# Altium footprint library Miscellaneous Devices.PcbLib: 215 footprints (part 11 of 14)
Each footprint in its own frame and in the unit in brackets; x right, y up, seen from the top. Pads: shape width x height; smd on the part's side, far side on the other; paste and mask are expansions set on the pad; w line width, h text height; cw(c..) or ccw(c..) is an arc to the next point about the centre after c.
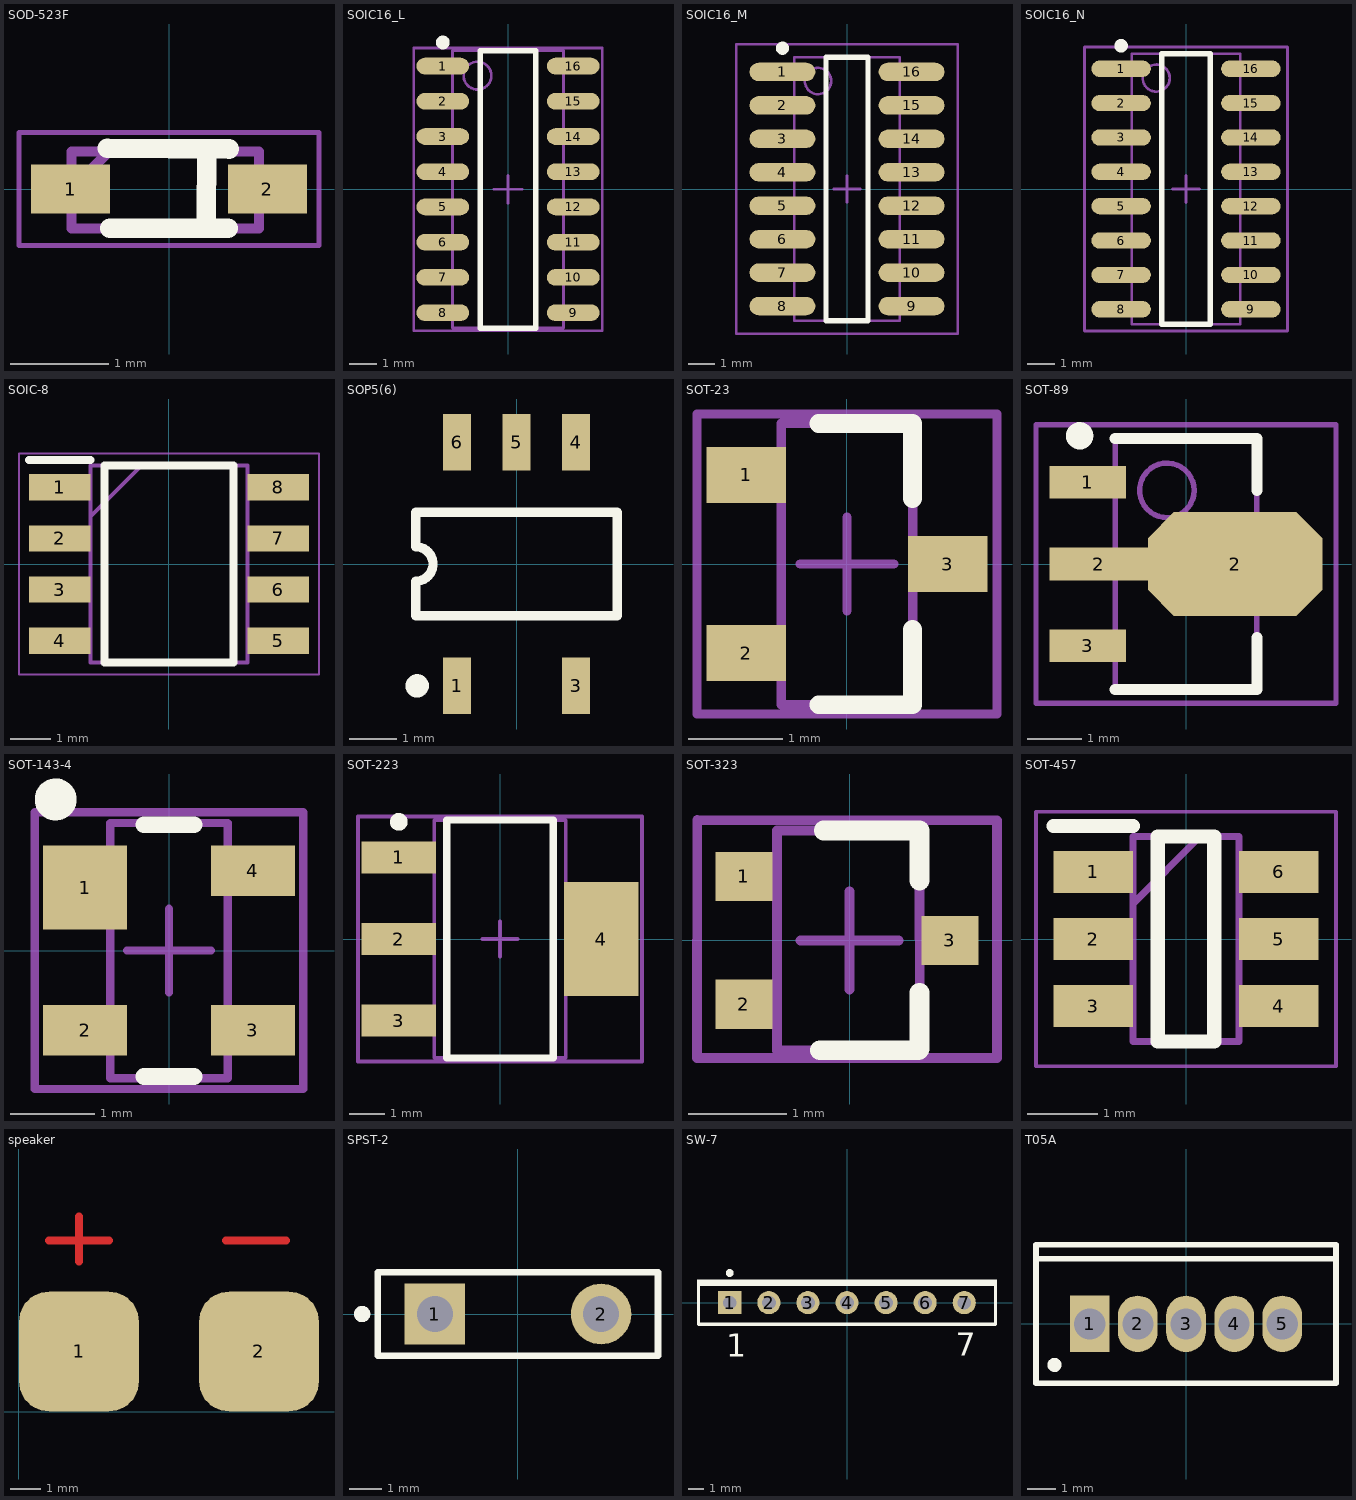
[diagram p10: the footprints below, top view; thin cyan lines are the x and y axes]

## SOD-523F [mm] "width: 1.35mm; long: 2.7"
height 1.1
pads (2):
  rect 0.8x0.5 smd: 1(-1,0) 2(1,0)
Top Overlay:
  lines w0.2: -0.625,0.413 0.61,0.406 ; -0.6,-0.4 0.6,-0.4 ; 0.379,-0.33 0.383,0.406
Mechanical 13:
  lines w0.1: -0.991,0 -0.597,0.394 ; -0.991,-0.4 -0.991,0.381 0.914,0.381 0.914,-0.4 -0.991,-0.4
Mechanical 15:
  lines w0.05: -1.524,-0.575 -1.524,0.575 1.524,0.575 1.524,-0.575 -1.524,-0.575
3D body "SOD-523F.STEP": height 0.7, standoff 0, extent -0.8,-0.399 0.8,0.399

## SOIC16_L [mm] "SOIC, 16-Leads, Body 9.9x3.9mm, Pitch 1.27mm, IPC High Density"
height 1.91
pads (16):
  oval 1.9x0.6 smd: 1(-2.35,4.445) 2(-2.35,3.175) 3(-2.35,1.905) 4(-2.35,0.635) 5(-2.35,-0.635) 6(-2.35,-1.905) 7(-2.35,-3.175) 8(-2.35,-4.445) 9(2.35,-4.445) 10(2.35,-3.175) 11(2.35,-1.905) 12(2.35,-0.635) 13(2.35,0.635) 14(2.35,1.905) 15(2.35,3.175) 16(2.35,4.445)
Top Overlay:
  circle w0.25: c-2.35,5.295 r0.125
  lines w0.2: -1,-5 -1,5 1,5 1,-5 -1,-5
Mechanical 13:
  circle w0.1: c-1.1,4.1 r0.5
  lines w0.1: -2,-5 -2,5 2,5 2,-5 -2,-5
Mechanical 15:
  lines w0.1: -0.5,0 0.5,0 ; 0,-0.5 0,0.5 ; -3.4,-5.1 -3.4,5.1 3.4,5.1 3.4,-5.1 -3.4,-5.1
3D body: height 1.91, standoff 0, extent -2,-5 2,5

## SOIC16_M [mm] "SOIC, 16-Leads, Body 9.9x3.9mm, Pitch 1.27mm, IPC Low Density"
height 1.91
pads (16):
  oval 2.5x0.7 smd: 1(-2.45,4.445) 2(-2.45,3.175) 3(-2.45,1.905) 4(-2.45,0.635) 5(-2.45,-0.635) 6(-2.45,-1.905) 7(-2.45,-3.175) 8(-2.45,-4.445) 9(2.45,-4.445) 10(2.45,-3.175) 11(2.45,-1.905) 12(2.45,-0.635) 13(2.45,0.635) 14(2.45,1.905) 15(2.45,3.175) 16(2.45,4.445)
Top Overlay:
  circle w0.25: c-2.45,5.345 r0.125
  lines w0.2: -0.8,-5 -0.8,5 0.8,5 0.8,-5 -0.8,-5
Mechanical 13:
  circle w0.1: c-1.1,4.1 r0.5
  lines w0.1: -2,-5 -2,5 2,5 2,-5 -2,-5
Mechanical 15:
  lines w0.1: -0.5,0 0.5,0 ; 0,-0.5 0,0.5 ; -4.2,-5.5 -4.2,5.5 4.2,5.5 4.2,-5.5 -4.2,-5.5
3D body: height 1.91, standoff 0, extent -2,-5 2,5

## SOIC16_N [mm] "SOIC, 16-Leads, Body 9.9x3.9mm, Pitch 1.27mm, IPC Medium Density"
height 1.91
pads (16):
  oval 2.2x0.6 smd: 1(-2.4,4.445) 2(-2.4,3.175) 3(-2.4,1.905) 4(-2.4,0.635) 5(-2.4,-0.635) 6(-2.4,-1.905) 7(-2.4,-3.175) 8(-2.4,-4.445) 9(2.4,-4.445) 10(2.4,-3.175) 11(2.4,-1.905) 12(2.4,-0.635) 13(2.4,0.635) 14(2.4,1.905) 15(2.4,3.175) 16(2.4,4.445)
Top Overlay:
  circle w0.25: c-2.4,5.295 r0.125
  lines w0.2: -0.9,-5 -0.9,5 0.9,5 0.9,-5 -0.9,-5
Mechanical 13:
  circle w0.1: c-1.1,4.1 r0.5
  lines w0.1: -2,-5 -2,5 2,5 2,-5 -2,-5
Mechanical 15:
  lines w0.1: -0.5,0 0.5,0 ; 0,-0.5 0,0.5 ; -3.75,-5.25 -3.75,5.25 3.75,5.25 3.75,-5.25 -3.75,-5.25
3D body: height 1.91, standoff 0, extent -2,-5 2,5

## SOIC-8 [mm]
pads (8):
  rect 1.525x0.65 smd: 1(-2.712,1.905) 2(-2.712,0.635) 3(-2.712,-0.635) 4(-2.712,-1.905) 5(2.712,-1.905) 6(2.712,-0.635) 7(2.712,0.635) 8(2.712,1.905)
Top Overlay:
  lines w0.2: -3.475,2.58 -1.95,2.58 ; -1.6,-2.45 1.6,-2.45 1.6,2.45 -1.6,2.45 -1.6,-2.45
Mechanical 13:
  lines w0.1: -1.95,1.18 -0.68,2.45 ; -1.95,-2.45 1.95,-2.45 1.95,2.45 -1.95,2.45 -1.95,-2.45
Mechanical 15:
  lines w0.05: -3.725,-2.75 3.725,-2.75 3.725,2.75 -3.725,2.75 -3.725,-2.75
3D body "SOIC8.step": height 1.75, standoff 0, extent -3,-2.45 3,2.45

## SOP5(6) [mm] "Small Outline; 6 Leads (1 Absent); Body Width 4.4 mm; Pitch 1.27 mm"
height 2.4
pads (5):
  rect 0.6x1.2 smd: 1(-1.27,-2.6) 3(1.27,-2.6) 4(1.27,2.6) 5(0,2.6) 6(-1.27,2.6)
Top Overlay:
  circle w0.25: c-2.12,-2.6 r0.125
  lines w0.2: -2.15,-1.1 -2.15,-0.367 ccw(c-2.15,0) -2.15,0.367 -2.15,1.1 2.15,1.1 2.15,-1.1 -2.15,-1.1

## SOT-23 [mm] "SOT23, 3-Leads, Body 2.9x1.3mm, Pitch 0.95mm, Lead Span 2.5mm, IPC High Density"
height 1.1
pads (3):
  rect 0.85x0.6 smd: 1(-1.075,0.95) 2(-1.075,-0.95) 3(1.075,0)
Top Overlay:
  lines w0.2: -0.3,-1.5 0.7,-1.5 0.7,-0.7 ; -0.3,1.5 0.7,1.5 0.7,0.7
Mechanical 13:
  lines w0.1: -0.7,-1.5 -0.7,1.5 0.7,1.5 0.7,-1.5 -0.7,-1.5
Mechanical 15:
  lines w0.1: -0.5,0 0.5,0 ; 0,-0.5 0,0.5 ; -1.6,-1.6 -1.6,1.6 1.6,1.6 1.6,-1.6 -1.6,-1.6
3D body "SOT23.step": height 1.05, standoff -0.05, extent -1.25,-1.5 1.25,1.5

## SOT-89 [mm] "SOT89, 3-Leads, Body 4.5x2.4 mm, Pitch 1.5mm, Lead Span 4.1mm, IPC Medium Density"
height 1.6
pads (4):
  rect 1.4x0.6 smd: 1(-1.8,1.5) 3(-1.8,-1.5)
  rect 1.8x0.6 smd: 2(-1.6,0)
  oct 3.2x1.9 smd: 2(0.9,0)
Top Overlay:
  circle w0.25: c-1.95,2.35 r0.125
  lines w0.2: -1.3,-2.3 1.3,-2.3 1.3,-1.35 ; -1.3,2.3 1.3,2.3 1.3,1.35
Mechanical 13:
  circle w0.1: c-0.35,1.35 r0.5
  lines w0.1: -1.3,-2.3 -1.3,2.3 1.3,2.3 1.3,-2.3 -1.3,-2.3
Mechanical 15:
  lines w0.1: -0.5,0 0.5,0 ; 0,-0.5 0,0.5 ; -2.75,-2.55 -2.75,2.55 2.75,2.55 2.75,-2.55 -2.75,-2.55
3D body "SOT89-3.STEP": height 1.54, standoff 0, extent -2.25,-2.25 2,2.25

## SOT-143-4 [mm]
pads (4):
  rect 1x1 smd: 1(-1,0.75)
  rect 1x0.6 smd: 2(-1,-0.95) 3(1,-0.95) 4(1,0.95)
Top Overlay:
  circle w0.25: c-1.35,1.8 r0.125
  lines w0.2: -0.3,-1.5 0.3,-1.5 ; -0.3,1.5 0.3,1.5
Mechanical 13:
  lines w0.1: -0.7,-1.52 0.7,-1.52 0.7,1.52 -0.7,1.52 -0.7,-1.52
Mechanical 15:
  lines w0.1: -0.5,0 0.5,0 ; 0,-0.5 0,0.5 ; -1.6,-1.65 1.6,-1.65 1.6,1.65 -1.6,1.65 -1.6,-1.65
3D body "SOT143-4.STEP": height 1, standoff 0, extent -1.21,-1.46 1.21,1.46

## SOT-223 [mm] "SOT223, 4-Leads, Body 6.5x3.5mm, Pitch 2.3mm, Lead Span 7mm, IPC High Density"
height 1.7
pads (4):
  rect 2.1x0.9 smd: 1(-2.85,2.3) 2(-2.85,0) 3(-2.85,-2.3)
  rect 2.1x3.2 smd: 4(2.85,0)
Top Overlay:
  circle w0.25: c-2.85,3.3 r0.125
  lines w0.2: -1.5,-3.35 -1.5,3.35 1.5,3.35 1.5,-3.35 -1.5,-3.35
Mechanical 13:
  lines w0.1: -1.85,-3.35 -1.85,3.35 1.85,3.35 1.85,-3.35 -1.85,-3.35
Mechanical 15:
  lines w0.1: -0.5,0 0.5,0 ; 0,-0.5 0,0.5 ; -4,-3.45 -4,3.45 4,3.45 4,-3.45 -4,-3.45
3D body "SOT223-3.step": height 1.65, standoff -0.03, extent -3.48,-3.25 3.48,3.25

## SOT-323 [mm] "SOT23, 3-Leads, Body 2.9x1.3mm, Pitch 0.95mm, Lead Span 2.5mm, IPC High Density"
height 1.1
pads (3):
  rect 0.58x0.5 smd: 1(-1.075,0.65) 2(-1.075,-0.65) 3(1.02,0)
Top Overlay:
  lines w0.2: -0.3,-1.118 0.7,-1.118 ; -0.263,1.118 0.711,1.118 0.711,0.61 ; 0.711,-1.103 0.711,-0.533
Mechanical 13:
  lines w0.1: -0.737,-1.118 -0.737,1.118 0.711,1.118 0.713,-1.118 -0.737,-1.118
Mechanical 15:
  lines w0.1: -0.5,0 0.5,0 ; 0,-0.5 0,0.5 ; -1.551,-1.194 1.499,-1.194 1.499,1.218 -1.548,1.222 -1.551,-1.194
3D body "SOT-323-3.stp": height 0.9, standoff -0.05, extent -1.05,-1 1.05,1

## SOT-457 [mm]
pads (6):
  rect 1.125x0.6 smd: 1(-1.312,0.95) 2(-1.312,0) 3(-1.312,-0.95) 4(1.312,-0.95) 5(1.312,0) 6(1.312,0.95)
Top Overlay:
  lines w0.2: -1.875,1.6 -0.75,1.6 ; -0.4,-1.45 0.4,-1.45 0.4,1.45 -0.4,1.45 -0.4,-1.45
Mechanical 13:
  lines w0.1: -0.75,0.5 0.2,1.45 ; -0.75,-1.45 0.75,-1.45 0.75,1.45 -0.75,1.45 -0.75,-1.45
Mechanical 15:
  lines w0.05: -2.125,-1.8 2.125,-1.8 2.125,1.8 -2.125,1.8 -2.125,-1.8
3D body "SOT457.STEP": height 1, standoff 0, extent -1.488,-1.5 1.312,1.5

## speaker [mm]
pads (2):
  rrect50% 4x4 smd paste-2: 1(2,2) 2(8,2)
Top Layer:
  lines w0.254: 1,5.7 3,5.7 ; 2,5 2,6.5 ; 6.9,5.7 8.9,5.7
Top Solder:
  lines w0.254: 1,5.7 3,5.7 ; 2,5 2,6.5 ; 6.9,5.7 8.9,5.7

## SPST-2 [mm] "Switch; 2 Leads"
pads (2):
  rect 1.85x1.85 hole 1.1: 1(-2.54,0)
  round 1.85 hole 1.1: 2(2.54,0)
Top Overlay:
  circle w0.25: c-4.761,-0.001 r0.125
  lines w0.2: -4.28,-1.27 -4.28,1.27 4.28,1.27 4.28,-1.27 -4.28,-1.27

## SW-7 [mm] "Switch; 7 Leads"
pads (7):
  rect 1.5x1.5 hole 0.9: 1(-7.62,0)
  round 1.5 hole 0.9: 2(-5.08,0) 3(-2.54,0) 4(0,0) 5(2.54,0) 6(5.08,0) 7(7.62,0)
Top Overlay:
  circle w0.25: c-7.625,1.929 r0.125
  rectangle: -9.75,1.1 9.75,1.5
  lines w0.2: -9.65,1.4 -9.65,-1.4 9.65,-1.4 9.65,1.4
  text "1" at -7.851,-3.526 h1.5
  text "7" at 7.084,-3.445 h1.5

## T05A [mm] "TO, Thru-Hole, Vertical, Heatsink Mounted; 5 In-Line Leads; Pitch 1.70 mm"
height 15.9
pads (5):
  rect 1.4x2 hole 1.1: 1(-3.4,0)
  oval 1.4x2 hole 1.1: 2(-1.7,0) 3(0,0) 4(1.7,0) 5(3.4,0)
Top Overlay:
  circle w0.25: c-4.65,-1.45 r0.125
  lines w0.2: -5.3,2.3 5.3,2.3 ; -5.3,-2.1 5.3,-2.1 5.3,2.8 -5.3,2.8 -5.3,-2.1
Mechanical 13:
  lines w0.1: -5.3,2.3 5.3,2.3 ; -5.3,-2.1 -5.3,2.8 5.3,2.8 5.3,-2.1 -5.3,-2.1 ; -3.91,-0.28 -3.91,0.28 -2.89,0.28 -2.89,-0.28 -3.91,-0.28 ; -2.21,-0.28 -2.21,0.28 -1.19,0.28 -1.19,-0.28 -2.21,-0.28 ; -0.51,-0.28 -0.51,0.28 0.51,0.28 0.51,-0.28 -0.51,-0.28 ; 1.19,-0.28 1.19,0.28 2.21,0.28 2.21,-0.28 1.19,-0.28 ; 2.89,-0.28 2.89,0.28 3.91,0.28 3.91,-0.28 2.89,-0.28
Mechanical 15:
  lines w0.1: -0.5,0 0.5,0 ; 0,-0.5 0,0.5
3D body: height 4.1, standoff 0, extent -0.509,-0.279 0.509,0.279
3D body: height 4.1, standoff 0, extent 2.891,-0.279 3.909,0.279
3D body: height 4.1, standoff 0, extent 1.191,-0.279 2.209,0.279
3D body: height 4.1, standoff 0, extent -2.209,-0.279 -1.191,0.279
3D body: height 4.1, standoff 0, extent -3.909,-0.279 -2.891,0.279
3D body: height 13, standoff 4.1, extent -5.35,-2.15 5.35,2.85
3D body: height 15.9, standoff 13, extent -5.299,2.301 5.299,2.799